# EAGLE library part ATMEGA324P (library ATMega324P-piggy)
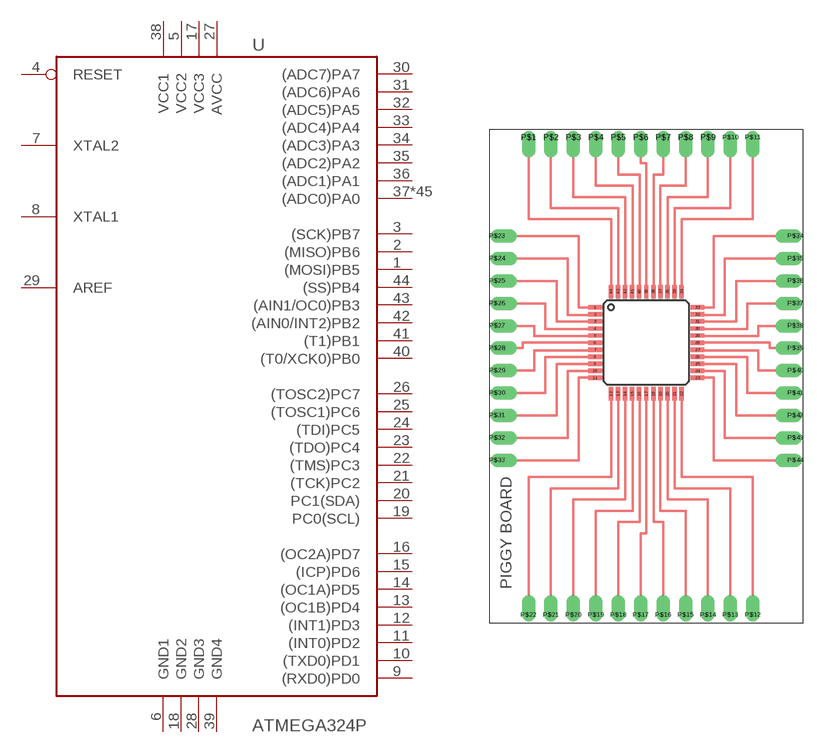
[diagram p0: symbol with the pads of TQFP-44; footprint TQFP-44]

Designator prefix -

## ATMEGA324P  [TQFP-44]
1  (MOSI)PB5
2  (MISO)PB6
3  (SCK)PB7
4  RESET  in
5  VCC2
6  GND1
7  XTAL2
8  XTAL1
9  (RXD0)PD0
10  (TXD0)PD1
11  (INT0)PD2
12  (INT1)PD3
13  (OC1B)PD4
14  (OC1A)PD5
15  (ICP)PD6
16  (OC2A)PD7
17  VCC3
18  GND2
19  PC0(SCL)
20  PC1(SDA)
21  (TCK)PC2
22  (TMS)PC3
23  (TDO)PC4
24  (TDI)PC5
25  (TOSC1)PC6
26  (TOSC2)PC7
27  AVCC
28  GND3
29  AREF  pas
30  (ADC7)PA7
31  (ADC6)PA6
32  (ADC5)PA5
33  (ADC4)PA4
34  (ADC3)PA3
35  (ADC2)PA2
36  (ADC1)PA1
37  (ADC0)PA0
38  VCC1
39  GND4
40  (T0/XCK0)PB0
41  (T1)PB1
42  (AIN0/INT2)PB2
43  (AIN1/OC0)PB3
44  (SS)PB4
P$1  (ADC0)PA0
P$2  (ADC0)PA0
P$3  (ADC0)PA0
P$4  (ADC0)PA0
P$5  (ADC0)PA0
P$6  (ADC0)PA0
P$7  (ADC0)PA0
P$8  (ADC0)PA0
P$9  (ADC0)PA0
P$10  (ADC0)PA0
P$11  (ADC0)PA0
P$12  (ADC0)PA0
P$13  (ADC0)PA0
P$14  (ADC0)PA0
P$15  (ADC0)PA0
P$16  (ADC0)PA0
P$17  (ADC0)PA0
P$18  (ADC0)PA0
P$19  (ADC0)PA0
P$20  (ADC0)PA0
P$21  (ADC0)PA0
P$22  (ADC0)PA0
P$23  (ADC0)PA0
P$24  (ADC0)PA0
P$25  (ADC0)PA0
P$26  (ADC0)PA0
P$27  (ADC0)PA0
P$28  (ADC0)PA0
P$29  (ADC0)PA0
P$30  (ADC0)PA0
P$31  (ADC0)PA0
P$32  (ADC0)PA0
P$33  (ADC0)PA0
P$34  (ADC0)PA0
P$35  (ADC0)PA0
P$36  (ADC0)PA0
P$37  (ADC0)PA0
P$38  (ADC0)PA0
P$39  (ADC0)PA0
P$40  (ADC0)PA0
P$41  (ADC0)PA0
P$42  (ADC0)PA0
P$43  (ADC0)PA0
P$44  (ADC0)PA0

## Footprint TQFP-44 (pad centres in mm)
smd 1.5 x 0.5: 1 -8.34,7.81; 2 -8.34,7.01; 3 -8.34,6.21; 4 -8.34,5.41; 5 -8.34,4.61; 6 -8.34,3.81; 7 -8.34,3.01; 8 -8.34,2.21; 9 -8.34,1.41; 10 -8.34,0.61; 11 -8.34,-0.19; 23 3.26,-0.19; 24 3.26,0.61; 25 3.26,1.41; 26 3.26,2.21; 27 3.26,3.01; 28 3.26,3.81; 29 3.26,4.61; 30 3.26,5.41; 31 3.26,6.21; 32 3.26,7.01; 33 3.26,7.81
smd 0.5 x 1.5: 12 -6.54,-1.99; 13 -5.74,-1.99; 14 -4.94,-1.99; 15 -4.14,-1.99; 16 -3.34,-1.99; 17 -2.54,-1.99; 18 -1.74,-1.99; 19 -0.94,-1.99; 20 -0.14,-1.99; 21 0.66,-1.99; 22 1.46,-1.99; 34 1.46,9.61; 35 0.66,9.61; 36 -0.14,9.61; 37 -0.94,9.61; 38 -1.74,9.61; 39 -2.54,9.61; 40 -3.34,9.61; 41 -4.14,9.61; 42 -4.94,9.61; 43 -5.74,9.61; 44 -6.54,9.61
drill 1 offset: P$1 -15.875,27.051; P$2 -13.335,27.051; P$3 -10.795,27.051; P$4 -8.255,27.051; P$5 -5.715,27.051; P$6 -3.175,27.051; P$7 -0.635,27.051; P$8 1.905,27.051; P$9 4.445,27.051; P$10 6.985,27.051; P$11 9.525,27.051; P$12 9.525,-27.051; P$13 6.985,-27.051; P$14 4.445,-27.051; P$15 1.905,-27.051; P$16 -0.635,-27.051; P$17 -3.175,-27.051; P$18 -5.715,-27.051; P$19 -8.255,-27.051; P$20 -10.795,-27.051; P$21 -13.335,-27.051; P$22 -15.875,-27.051; P$23 -19.431,15.875; P$24 -19.431,13.335; P$25 -19.431,10.795; P$26 -19.431,8.255; P$27 -19.431,5.715; P$28 -19.431,3.175; P$29 -19.431,0.635; P$30 -19.431,-1.905; P$31 -19.431,-4.445; P$32 -19.431,-6.985; P$33 -19.431,-9.525; P$34 14.351,15.875; P$35 14.351,13.335; P$36 14.351,10.795; P$37 14.351,8.255; P$38 14.351,5.715; P$39 14.351,3.175; P$40 14.351,0.635; P$41 14.351,-1.905; P$42 14.351,-4.445; P$43 14.351,-6.985; P$44 14.351,-9.525